# Altium integrated library myST.IntLib: 1 symbol
Pins are listed as number, name and electrical type; pins without a type are passive.

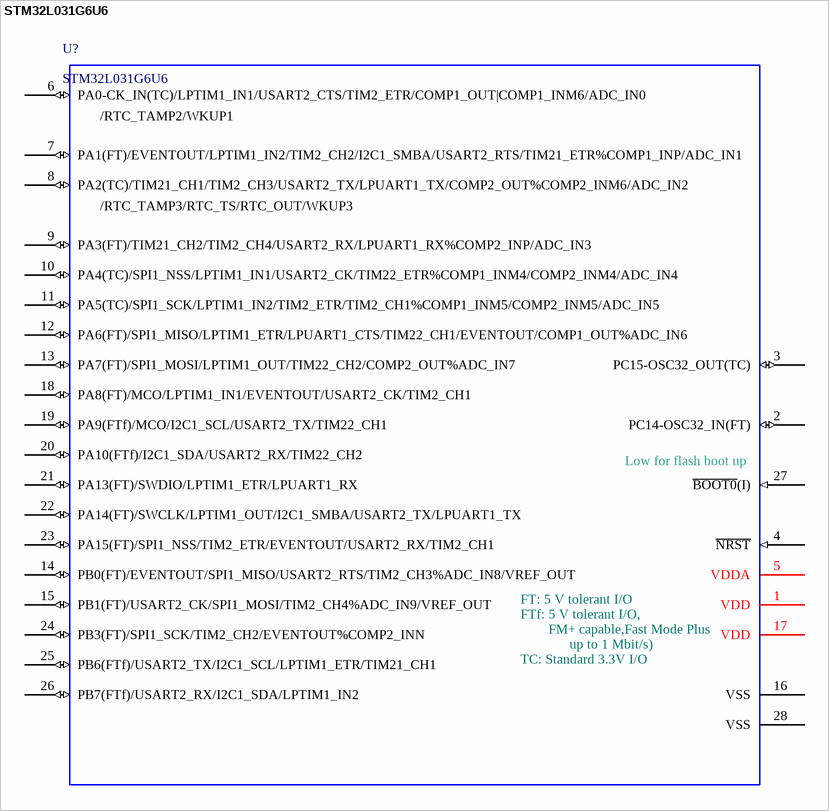
[diagram p0: symbol STM32L031G6U6]

## STM32L031G6U6
designator U?
贴片集成芯片
footprint UFQFPN28 (STM32L031G6U6)
pins: 1 VDD (power), 2 PC14-OSC32_IN(FT) (io), 3 PC15-OSC32_OUT(TC) (io), 4 ~{NRST} (in), 5 VDDA (power), 6 PA0-CK_IN(TC)/LPTIM1_IN1/USART2_CTS/TIM2_ETR/COMP1_OUT|COMP1_INM6/ADC_IN0 (io), 7 PA1(FT)/EVENTOUT/LPTIM1_IN2/TIM2_CH2/I2C1_SMBA/USART2_RTS/TIM21_ETR%COMP1_INP/ADC_IN1 (io), 8 PA2(TC)/TIM21_CH1/TIM2_CH3/USART2_TX/LPUART1_TX/COMP2_OUT%COMP2_INM6/ADC_IN2 (io), 9 PA3(FT)/TIM21_CH2/TIM2_CH4/USART2_RX/LPUART1_RX%COMP2_INP/ADC_IN3 (io), 10 PA4(TC)/SPI1_NSS/LPTIM1_IN1/USART2_CK/TIM22_ETR%COMP1_INM4/COMP2_INM4/ADC_IN4 (io), 11 PA5(TC)/SPI1_SCK/LPTIM1_IN2/TIM2_ETR/TIM2_CH1%COMP1_INM5/COMP2_INM5/ADC_IN5 (io), 12 PA6(FT)/SPI1_MISO/LPTIM1_ETR/LPUART1_CTS/TIM22_CH1/EVENTOUT/COMP1_OUT%ADC_IN6 (io), 13 PA7(FT)/SPI1_MOSI/LPTIM1_OUT/TIM22_CH2/COMP2_OUT%ADC_IN7 (io), 14 PB0(FT)/EVENTOUT/SPI1_MISO/USART2_RTS/TIM2_CH3%ADC_IN8/VREF_OUT (io), 15 PB1(FT)/USART2_CK/SPI1_MOSI/TIM2_CH4%ADC_IN9/VREF_OUT (io), 16 VSS (power), 17 VDD (power), 18 PA8(FT)/MCO/LPTIM1_IN1/EVENTOUT/USART2_CK/TIM2_CH1 (io), 19 PA9(FTf)/MCO/I2C1_SCL/USART2_TX/TIM22_CH1 (io), 20 PA10(FTf)/I2C1_SDA/USART2_RX/TIM22_CH2 (io), 21 PA13(FT)/SWDIO/LPTIM1_ETR/LPUART1_RX (io), 22 PA14(FT)/SWCLK/LPTIM1_OUT/I2C1_SMBA/USART2_TX/LPUART1_TX (io), 23 PA15(FT)/SPI1_NSS/TIM2_ETR/EVENTOUT/USART2_RX/TIM2_CH1 (io), 24 PB3(FT)/SPI1_SCK/TIM2_CH2/EVENTOUT%COMP2_INN (io), 25 PB6(FTf)/USART2_TX/I2C1_SCL/LPTIM1_ETR/TIM21_CH1 (io), 26 PB7(FTf)/USART2_RX/I2C1_SDA/LPTIM1_IN2 (io), 27 ~{BOOT0}(I) (in), 28 VSS (power)
text: /RTC_TAMP2/WKUP1; /RTC_TAMP3/RTC_TS/RTC_OUT/WKUP3; Low for flash boot up; FT: 5 V tolerant I/O / FTf: 5 V tolerant I/O, / FM+ capable,Fast Mode Plus / up to 1 Mbit/s) / TC: Standard 3.3V I/O